# EAGLE library part T1 (library bodger)
TRANSFORMER Triple-secondary flyback transformer Duplicate-pin Primary
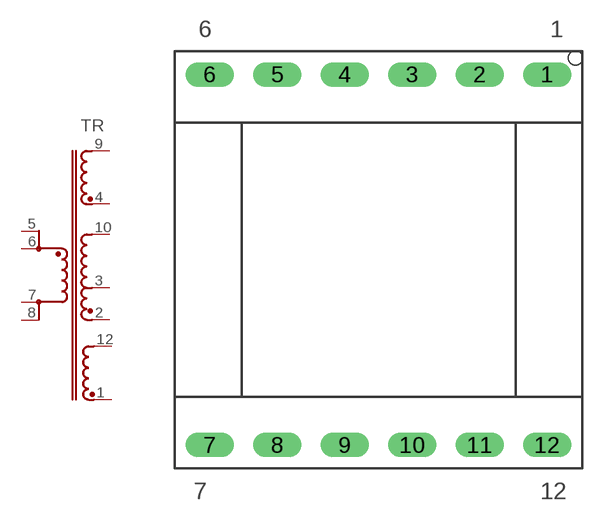
[diagram p5: symbol with the pads of CUSTOMCOILS_10163; footprint CUSTOMCOILS_10163]

Designator prefix TR

## T1  [CUSTOMCOILS_10163]
1  S3-1  pas
2  S2-1  pas
3  S2-2  pas
4  S1-1  pas
5  P1B  pas
6  P1  pas
7  P2  pas
8  P2B  pas
9  S1-2  pas
10  S2-3  pas
12  S3-2  pas

## Footprint CUSTOMCOILS_10163 (pad centres in mm)
Custom Coils transformer
drill 1.2 long: 1 12.509,13.754; 2 7.506,13.754; 3 2.502,13.754; 4 -2.502,13.754; 5 -7.506,13.754; 6 -12.509,13.754; 7 -12.509,-13.754; 8 -7.506,-13.754; 9 -2.502,-13.754; 10 2.502,-13.754; 11 7.506,-13.754; 12 12.509,-13.754